# Altium schematic symbol library Connectors.SchLib: 14 symbols
Pins are listed as number, name and electrical type; pins without a type are passive.

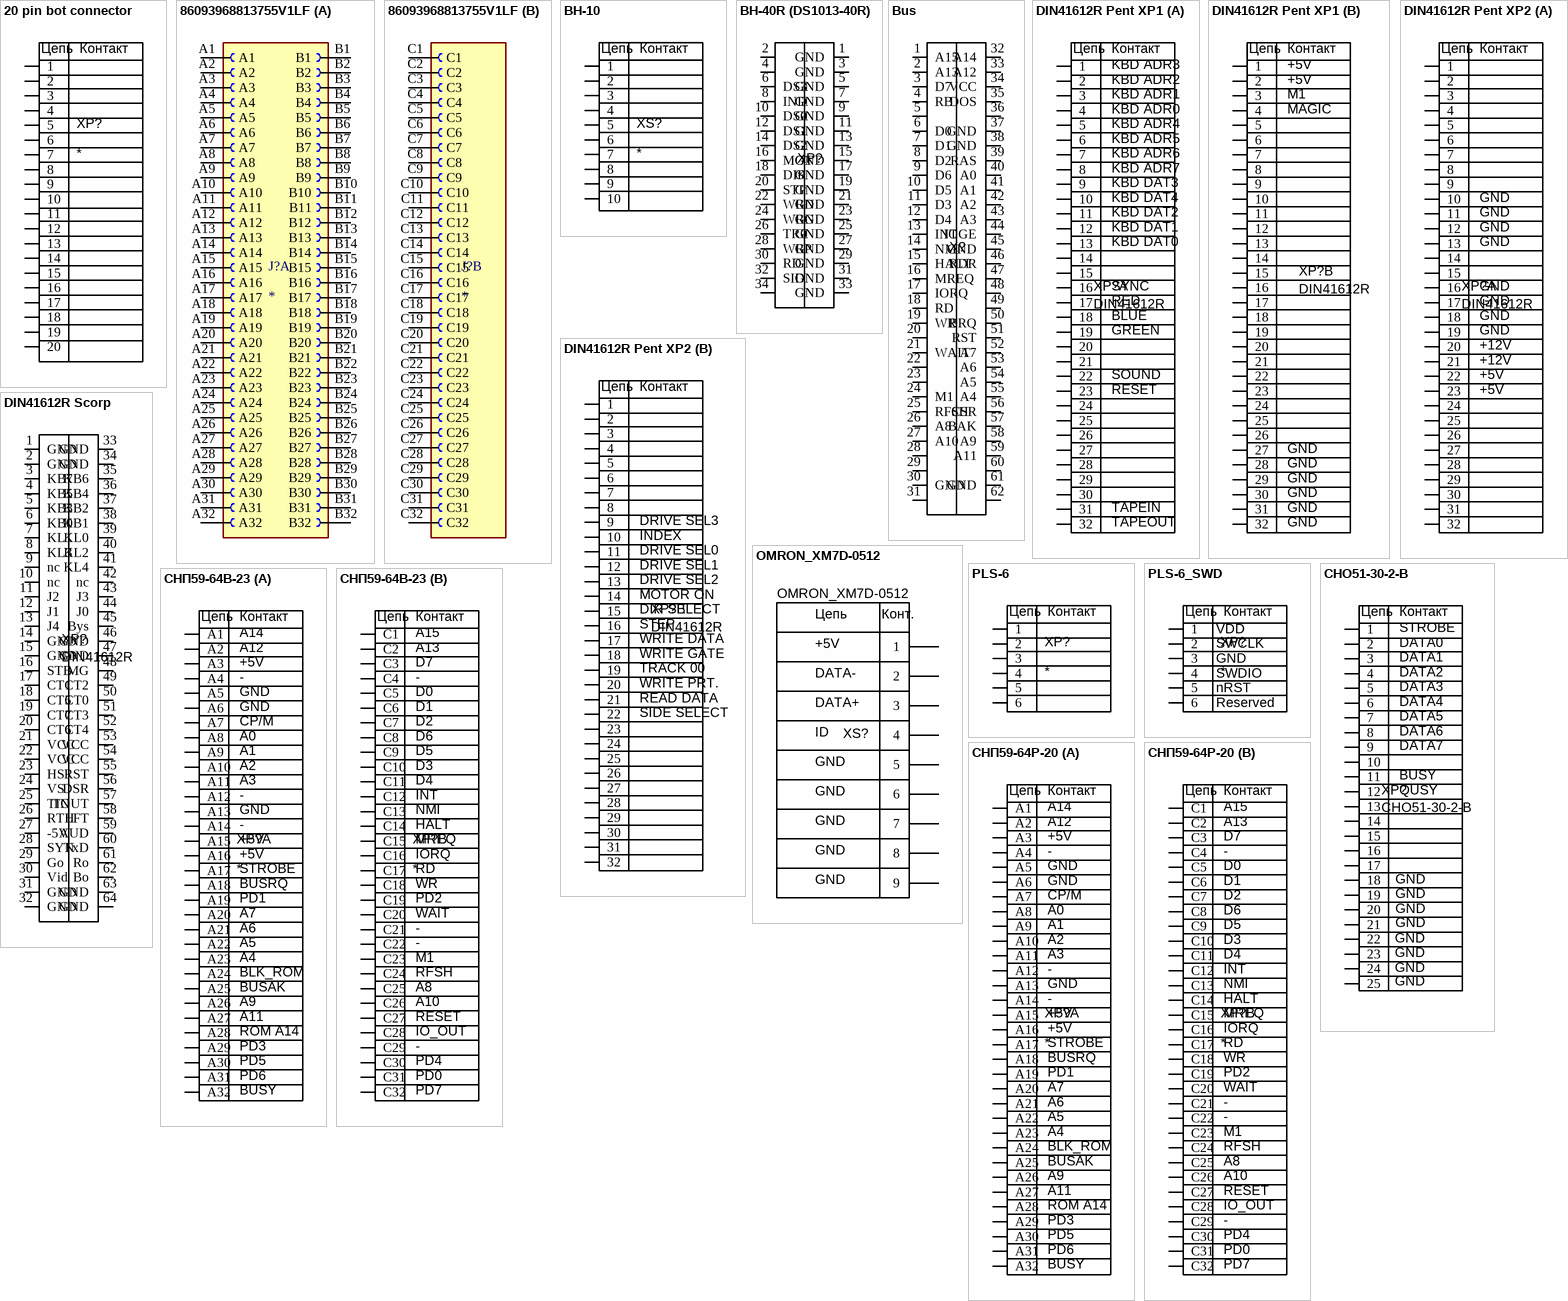
[diagram p0: symbols 20 pin bot connector to СНП59-64Р-20]

## 20 pin bot connector
designator XP?
20 Pin 2.54 mm
footprint 20pin header
pins: 1, 2, 3, 4, 5, 6, 7, 8, 9, 10, 11, 12, 13, 14, 15, 16, 17, 18, 19, 20
text: Цепь; Контакт

## 86093968813755V1LF
designator J?
Conn; Rect;Recept;Rt Angle;Solder-to-Bd; R; 96 Way;Class II; DIN 41612; 3mm Tail | Amphenol FCI (Amphenol CS) 86093968813755V1LF; MF: Amphenol ICC; SnapEDA_Link: https://www.snapeda.com/parts/86093968813755V1LF/Amphenol+FCI/view-part/?ref=snap; Package: None; Value: *; MP: 86093968813755V1LF; Check_prices: https://www.snapeda.com/parts/86093968813755V1LF/Amphenol+FCI/view-part/?ref=eda
footprint AMPHENOL_86093968813755V1LF
part A pins: A1, A2, A3, A4, A5, A6, A7, A8, A9, A10, A11, A12, A13, A14, A15, A16, A17, A18, A19, A20, A21, A22, A23, A24, A25, A26, A27, A28, A29, A30, A31, A32, B1, B2, B3, B4, B5, B6, B7, B8, B9, B10, B11, B12, B13, B14, B15, B16, B17, B18, B19, B20, B21, B22, B23, B24, B25, B26, B27, B28, B29, B30, B31, B32
part B pins: C1, C2, C3, C4, C5, C6, C7, C8, C9, C10, C11, C12, C13, C14, C15, C16, C17, C18, C19, C20, C21, C22, C23, C24, C25, C26, C27, C28, C29, C30, C31, C32

## BH-10
designator XS?
10 Position Total Dual Row 2.54 mm Pitch Straight Male Shrouded Box Header; MF: Sullins Connector; MP: SBH11-PBPC-D05-ST-BK; SnapEDA_Link: https://www.snapeda.com/parts/SBH11-PBPC-D05-ST-BK/Sullins+Connector+Solutions/view-part/?ref=snap; Package: None; Value: *; Check_prices: https://www.snapeda.com/parts/SBH11-PBPC-D05-ST-BK/Sullins+Connector+Solutions/view-part/?ref=eda
footprint BH-10
pins: 1, 2, 3, 4, 5, 6, 7, 8, 9, 10
text: Цепь; Контакт

## BH-40R (DS1013-40R)
designator XP?
Floppy
footprint TE_103309-7
pins: 1 GND, 2, 3 GND, 4, 5 GND, 6 DS3, 7 GND, 8 IND, 9 GND, 10 DS0, 11 GND, 12 DS1, 13 GND, 14 DS2, 15 GND, 16 MOT, 17 GND, 18 DIR, 19 GND, 20 STP, 21 GND, 22 WRD, 23 GND, 24 WRG, 25 GND, 26 TR0, 27 GND, 28 WRP, 29 GND, 30 RD, 31 GND, 32 SID, 33 GND, 34

## Bus
designator X?
footprint BUS
footprint SL62
pins: 1 A15, 2 A13, 3 D7, 4 RB, 5, 6 D0, 7 D1, 8 D2, 9 D6, 10 D5, 11 D3, 12 D4, 13 INT, 14 NMI, 15 HALT, 16 MREQ, 17 IORQ, 18 RD, 19 WR, 20, 21 WAIT, 22, 23, 24 M1, 25 RFSH, 26 A8, 27 A10, 28, 29, 30 GND, 31, 32 A14, 33 A12, 34 VCC, 35 DOS, 36, 37 GND, 38 GND, 39 RAS, 40 A0, 41 A1, 42 A2, 43 A3, 44 IOGE, 45 GND, 46 RDR, 47, 48, 49, 50 BRQ, 51 RST, 52 A7, 53 A6, 54 A5, 55 A4, 56 CSR, 57 BAK, 58 A9, 59 A11, 60, 61 GND, 62

## DIN41612R Pent XP1
designator XP?, comment DIN41612R
zx-pentagon XP1
footprint TE_6-1393644-3 (DIN41612R)
part A pins: 1, 2, 3, 4, 5, 6, 7, 8, 9, 10, 11, 12, 13, 14, 15, 16, 17, 18, 19, 20, 21, 22, 23, 24, 25, 26, 27, 28, 29, 30, 31, 32
part B pins: 33 1, 34 2, 35 3, 36 4, 37 5, 38 6, 39 7, 40 8, 41 9, 42 10, 43 11, 44 12, 45 13, 46 14, 47 15, 48 16, 49 17, 50 18, 51 19, 52 20, 53 21, 54 22, 55 23, 56 24, 57 25, 58 26, 59 27, 60 28, 61 29, 62 30, 63 31, 64 32
part A text: Цепь; Контакт; KBD ADR3; KBD ADR2; KBD ADR1; KBD ADR0; KBD ADR4; KBD ADR5; KBD ADR6; KBD ADR7; KBD DAT3; KBD DAT4; KBD DAT2; KBD DAT1; KBD DAT0; SYNC; RED; BLUE; GREEN; SOUND; RESET; TAPEIN; TAPEOUT
part B text: Цепь; Контакт; +5V; M1; MAGIC; GND

## DIN41612R Pent XP2
designator XP?, comment DIN41612R
zx-pentagon XP2
footprint TE_6-1393644-3 (DIN41612R)
part A pins: 1, 2, 3, 4, 5, 6, 7, 8, 9, 10, 11, 12, 13, 14, 15, 16, 17, 18, 19, 20, 21, 22, 23, 24, 25, 26, 27, 28, 29, 30, 31, 32
part B pins: 33 1, 34 2, 35 3, 36 4, 37 5, 38 6, 39 7, 40 8, 41 9, 42 10, 43 11, 44 12, 45 13, 46 14, 47 15, 48 16, 49 17, 50 18, 51 19, 52 20, 53 21, 54 22, 55 23, 56 24, 57 25, 58 26, 59 27, 60 28, 61 29, 62 30, 63 31, 64 32
part A text: Цепь; Контакт; GND; +12V; +5V
part B text: Цепь; Контакт; DRIVE SEL3; INDEX; DRIVE SEL0; DRIVE SEL1; DRIVE SEL2; MOTOR ON; DIR SELECT; STEP; WRITE DATA; WRITE GATE; TRACK 00; WRITE PRT.; READ DATA; SIDE SELECT

## DIN41612R Scorp
designator XP?, comment DIN41612R
zs-scorpion
footprint TE_6-1393644-3 (DIN41612R)
pins: 1 GND, 2 GND, 3 KB7, 4 KB5, 5 KB3, 6 KB0, 7 KL1, 8 KL3, 9 nc, 10 nc, 11 J2, 12 J1, 13 J4, 14 GND, 15 GND, 16 STB, 17 CT1, 18 CT5, 19 CT7, 20 CT6, 21 VCC, 22 VCC, 23 HS, 24 VS, 25 TIN, 26 RTH, 27 -5V, 28 SYN, 29 Go, 30 Vid, 31 GND, 32 GND, 33 GND, 34 GND, 35 KB6, 36 KB4, 37 KB2, 38 KB1, 39 KL0, 40 KL2, 41 KL4, 42 nc, 43 J3, 44 J0, 45 Bys, 46 GND, 47 GND, 48 MG, 49 CT2, 50 CT0, 51 CT3, 52 CT4, 53 VCC, 54 VCC, 55 RST, 56 DSR, 57 TOUT, 58 LFT, 59 AUD, 60 TxD, 61 Ro, 62 Bo, 63 GND, 64 GND

## OMRON_XM7D-0512
designator XS?  value OMRON_XM7D-0512  (hidden comment: *)
KLS1-229-5FA-B, Гнездо mini USB, Тип B, угловое, 5 контактов, на плату; № 10557K гн miniUSB \B\5P4C\плат\угл\ \KLS1-229-5FA-B; Ед. изм.: шт; Страна производитель: KLS electronic co ltd; Марка и технические характеристики: OMRON_XM7D-0512; Наименование материалов или оборудования: KLS1-229-5FA-B, Гнездо mini USB, Тип B, угловое, 5 контактов, на плату; № 10557K гн miniUSB \B\5P4C\плат\угл\ \KLS1-229-5FA-B
footprint OMRON_XM7D-0512
pins: 1, 2, 3, 4, 5, 6, 7, 8, 9
text: Цепь; Конт.; +5V; DATA-; DATA+; ID; GND

## PLS-6
designator XP?
footprint 6pin
pins: 1, 2, 3, 4, 5, 6
text: Цепь; Контакт

## PLS-6_SWD
designator XP?
footprint 6pin
pins: 1, 2, 3, 4, 5, 6
text: Цепь; Контакт; VDD; SWCLK; GND; SWDIO; nRST; Reserved

## СНО51-30-2-В
designator XP?
pins: 1, 2, 3, 4, 5, 6, 7, 8, 9, 10, 11, 12, 13, 14, 15, 16, 17, 18, 19, 20, 21, 22, 23, 24, 25
text: Цепь; Контакт; STROBE; DATA0; DATA1; DATA2; DATA3; DATA4; DATA5; DATA6; DATA7; BUSY; QUSY; GND

## СНП59-64В-23
designator XP?
Value: *
footprint delta-host
part A pins: A1, A2, A3, A4, A5, A6, A7, A8, A9, A10, A11, A12, A13, A14, A15, A16, A17, A18, A19, A20, A21, A22, A23, A24, A25, A26, A27, A28, A29, A30, A31, A32
part B pins: C1, C2, C3, C4, C5, C6, C7, C8, C9, C10, C11, C12, C13, C14, C15, C16, C17, C18, C19, C20, C21, C22, C23, C24, C25, C26, C27, C28, C29, C30, C31, C32
part A text: Цепь; Контакт; +5V; -; GND; CP/M; A0; STROBE; BUSRQ; PD1; BLK_ROM; BUSAK; ROM A14; PD3; PD5; PD6; BUSY
part B text: Цепь; Контакт; D7; -; D0; D1; D2; D6; D5; D3; D4; INT; NMI; HALT; MREQ; IORQ; RD; WR; PD2; WAIT; M1; RFSH; RESET; IO_OUT; PD4; PD0; PD7

## СНП59-64Р-20
designator XP?
Value: *
footprint delta-device
part A pins: A1, A2, A3, A4, A5, A6, A7, A8, A9, A10, A11, A12, A13, A14, A15, A16, A17, A18, A19, A20, A21, A22, A23, A24, A25, A26, A27, A28, A29, A30, A31, A32
part B pins: C1, C2, C3, C4, C5, C6, C7, C8, C9, C10, C11, C12, C13, C14, C15, C16, C17, C18, C19, C20, C21, C22, C23, C24, C25, C26, C27, C28, C29, C30, C31, C32
part A text: Цепь; Контакт; +5V; -; GND; CP/M; A0; STROBE; BUSRQ; PD1; BLK_ROM; BUSAK; ROM A14; PD3; PD5; PD6; BUSY
part B text: Цепь; Контакт; D7; -; D0; D1; D2; D6; D5; D3; D4; INT; NMI; HALT; MREQ; IORQ; RD; WR; PD2; WAIT; M1; RFSH; RESET; IO_OUT; PD4; PD0; PD7